# EAGLE library part XMC1000-48-SINGLE (library INF-XMC)
XMC1401 48 pin QFN Single Symbol
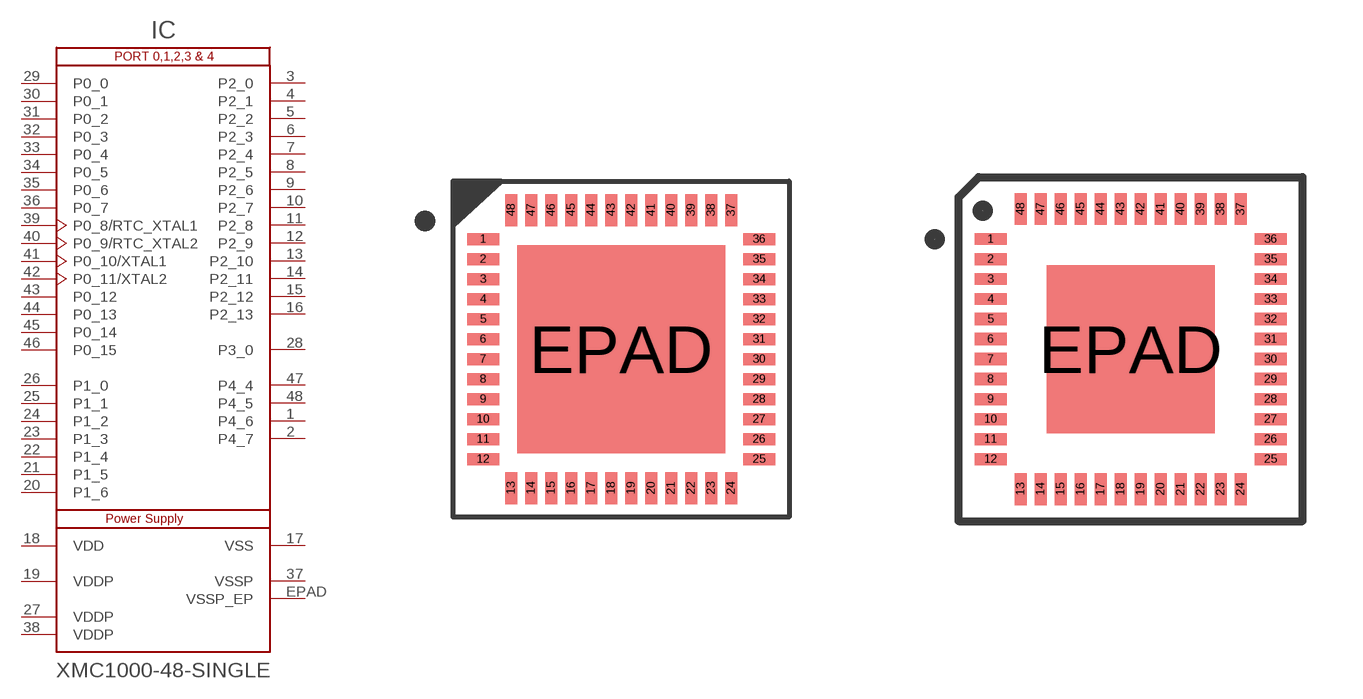
[diagram p7: symbol with the pads of QFN-48-7X7; footprints QFN-48-7X7, QFN-48P-7X7]

Designator prefix IC

## XMC1000-48-SINGLEA  [QFN-48-7X7]
1  P4_6
2  P4_7
3  P2_0
4  P2_1
5  P2_2  in
6  P2_3  in
7  P2_4  in
8  P2_5  in
9  P2_6  in
10  P2_7  in
11  P2_8  in
12  P2_9  in
13  P2_10
14  P2_11
15  P2_12
16  P2_13
17  VSS  pwr
18  VDD  pwr
19  VDDP  pwr
20  P1_6
21  P1_5
22  P1_4
23  P1_3
24  P1_2
25  P1_1
26  P1_0
27  VDDP  pwr
28  P3_0
29  P0_0
30  P0_1
31  P0_2
32  P0_3
33  P0_4
34  P0_5
35  P0_6
36  P0_7
37  VSSP  pwr
38  VDDP  pwr
39  P0_8/RTC_XTAL1
40  P0_9/RTC_XTAL2
41  P0_10/XTAL1
42  P0_11/XTAL2
43  P0_12
44  P0_13
45  P0_14
46  P0_15
47  P4_4
48  P4_5
EPAD  VSSP_EP  pwr

## XMC1000-48-SINGLE  [QFN-48P-7X7]
Pads as for QFN-48-7X7

## Footprint QFN-48-7X7 (pad centres in mm)
QFN-48 (7x7)
smd 0.8 x 0.3: 1 -3.45,2.75; 2 -3.45,2.25; 3 -3.45,1.75; 4 -3.45,1.25; 5 -3.45,0.75; 6 -3.45,0.25; 7 -3.45,-0.25; 8 -3.45,-0.75; 9 -3.45,-1.25; 10 -3.45,-1.75; 11 -3.45,-2.25; 12 -3.45,-2.75; 25 3.45,-2.75; 26 3.45,-2.25; 27 3.45,-1.75; 28 3.45,-1.25; 29 3.45,-0.75; 30 3.45,-0.25; 31 3.45,0.25; 32 3.45,0.75; 33 3.45,1.25; 34 3.45,1.75; 35 3.45,2.25; 36 3.45,2.75
smd 0.3 x 0.8: 13 -2.75,-3.475; 14 -2.25,-3.475; 15 -1.75,-3.475; 16 -1.25,-3.475; 17 -0.75,-3.475; 18 -0.25,-3.475; 19 0.25,-3.475; 20 0.75,-3.475; 21 1.25,-3.475; 22 1.75,-3.475; 23 2.25,-3.475; 24 2.75,-3.475; 37 2.75,3.475; 38 2.25,3.475; 39 1.75,3.475; 40 1.25,3.475; 41 0.75,3.475; 42 0.25,3.475; 43 -0.25,3.475; 44 -0.75,3.475; 45 -1.25,3.475; 46 -1.75,3.475; 47 -2.25,3.475; 48 -2.75,3.475
smd 5.2 x 5.2: EPAD 0,0

## Footprint QFN-48P-7X7 (pad centres in mm)
QFN48P-7X7
smd 0.8 x 0.3: 1 -3.5,2.75; 2 -3.5,2.25; 3 -3.5,1.75; 4 -3.5,1.25; 5 -3.5,0.75; 6 -3.5,0.25; 7 -3.5,-0.25; 8 -3.5,-0.75; 9 -3.5,-1.25; 10 -3.5,-1.75; 11 -3.5,-2.25; 12 -3.5,-2.75; 25 3.5,-2.75; 26 3.5,-2.25; 27 3.5,-1.75; 28 3.5,-1.25; 29 3.5,-0.75; 30 3.5,-0.25; 31 3.5,0.25; 32 3.5,0.75; 33 3.5,1.25; 34 3.5,1.75; 35 3.5,2.25; 36 3.5,2.75
smd 0.3 x 0.8: 13 -2.75,-3.5; 14 -2.25,-3.5; 15 -1.75,-3.5; 16 -1.25,-3.5; 17 -0.75,-3.5; 18 -0.25,-3.5; 19 0.25,-3.5; 20 0.75,-3.5; 21 1.25,-3.5; 22 1.75,-3.5; 23 2.25,-3.5; 24 2.75,-3.5; 37 2.75,3.5; 38 2.25,3.5; 39 1.75,3.5; 40 1.25,3.5; 41 0.75,3.5; 42 0.25,3.5; 43 -0.25,3.5; 44 -0.75,3.5; 45 -1.25,3.5; 46 -1.75,3.5; 47 -2.25,3.5; 48 -2.75,3.5
smd 4.2 x 4.2: EPAD 0,0